# EAGLE library part AD9235 (library AnalogDevices)
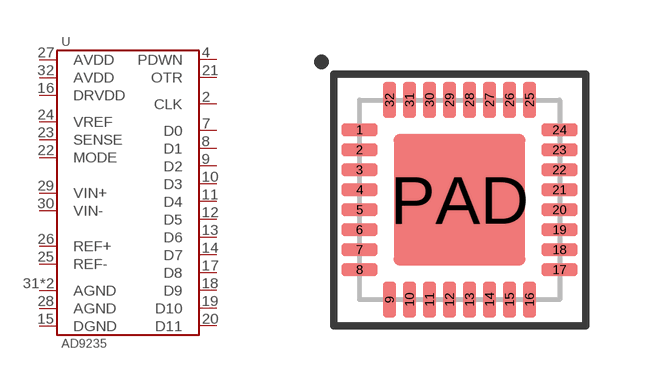
[diagram p13: symbol with the pads of WFQFN-32-5MM; footprint WFQFN-32-5MM]

Designator prefix U

## AD9235BCPZ-40  [WFQFN-32-5MM]
2  CLK
4  PDWN
7  D0
8  D1
9  D2
10  D3
11  D4
12  D5
13  D6
14  D7
15  DGND
16  DRVDD
17  D8
18  D9
19  D10
20  D11
21  OTR
22  MODE
23  SENSE
24  VREF
25  REF-
26  REF+
27  AVDD
28  AGND
29  VIN+
30  VIN-
31  AGND
32  AVDD
PAD  AGND

## Footprint WFQFN-32-5MM (pad centres in mm)
smd 0.9 x 0.325: 1 -2.5,1.75; 2 -2.5,1.25; 3 -2.5,0.75; 4 -2.5,0.25; 5 -2.5,-0.25; 6 -2.5,-0.75; 7 -2.5,-1.25; 8 -2.5,-1.75; 17 2.5,-1.75; 18 2.5,-1.25; 19 2.5,-0.75; 20 2.5,-0.25; 21 2.5,0.25; 22 2.5,0.75; 23 2.5,1.25; 24 2.5,1.75
smd 0.325 x 0.9: 9 -1.75,-2.5; 10 -1.25,-2.5; 11 -0.75,-2.5; 12 -0.25,-2.5; 13 0.25,-2.5; 14 0.75,-2.5; 15 1.25,-2.5; 16 1.75,-2.5; 25 1.75,2.5; 26 1.25,2.5; 27 0.75,2.5; 28 0.25,2.5; 29 -0.25,2.5; 30 -0.75,2.5; 31 -1.25,2.5; 32 -1.75,2.5
smd 3.3 x 3.3: PAD 0,0